# Altium integrated library TI Data Converters Digital to Analog Converter.IntLib: 1533 symbols (part 85 of 99)
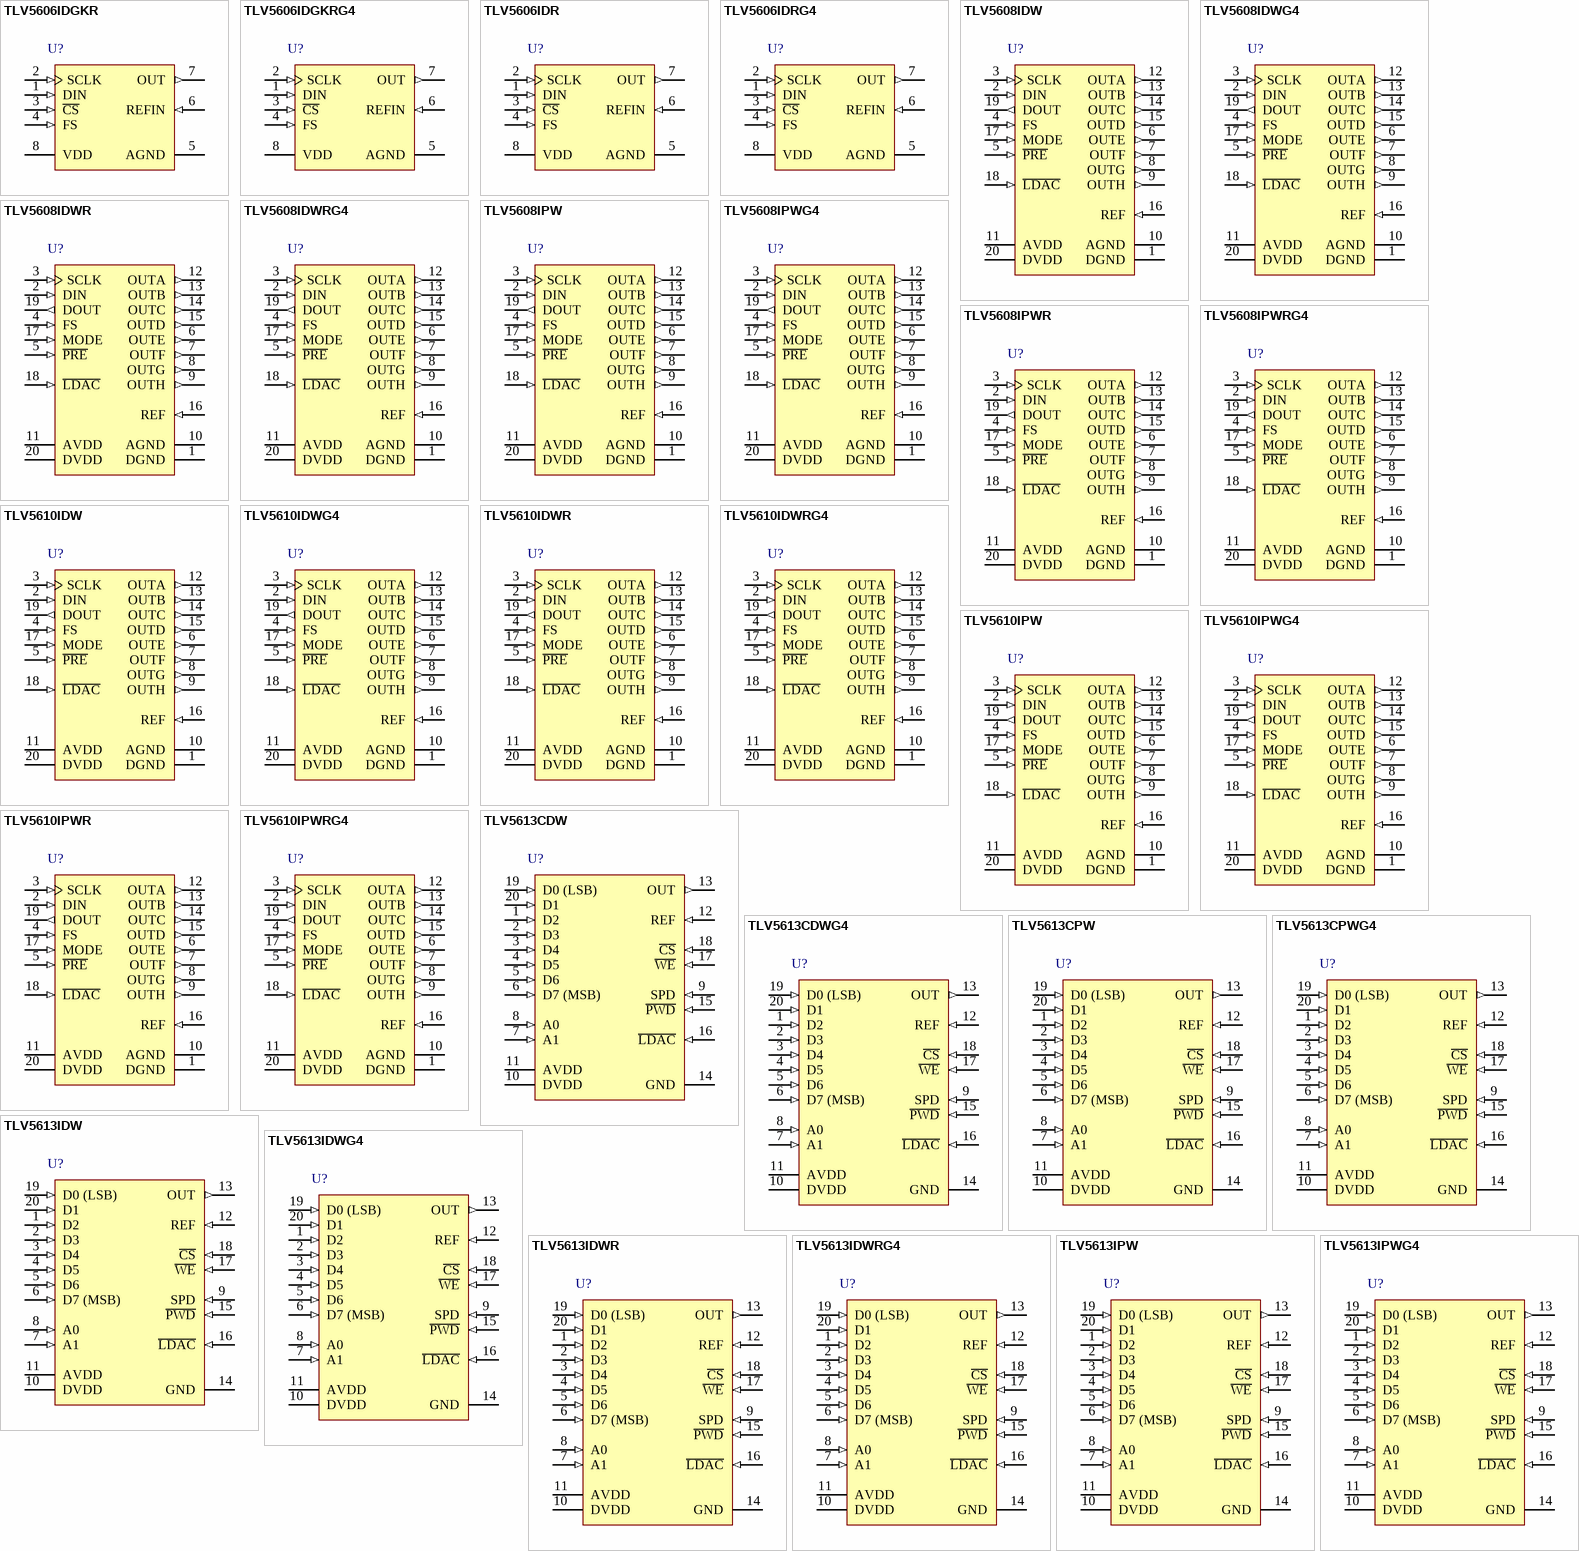
[diagram p157: symbols TLV5606IDGKR to TLV5613IPWG4]

## TLV5608IPWR
designator U?
2.7 to 5.5 V 10-Bit 8-Channel Serial DAC, -40 to 85 degC, 20-pin SOP (PW20), Green (RoHS & no Sb/Br); Manufacturer: Texas Instruments; PartNumber: TLV5608IPWR; DAC Channels: 8; DNL(Max)(+/-LSB): 1; INL(Max)(+/-LSB): 2; Interface: Serial SPI; Power Consumption(Typ)(mW): 18; Resolution(Bits): 10; SubFamily: Precision DAC (=<10MSPS); DatasheetVersion: SLAS268G; PackageVersion: 4040064-5/G, 02/2011; PackageReference: PW20; PackageDescription: 20-Pin Plastic Small Outline, Body 6.5 x 4.4 mm, Pitch 0.65 mm; Supplier 1: Digi-Key; Supplier Part Number 1: TLV5608IPWR-ND; Supplier 2: Newark; Supplier Part Number 2: 76C8892; Supplier 3: Mouser; Supplier Part Number 3: 595-TLV5608IPWR; Eco-Plan: Green (RoHS & no Sb/Br); Settling Time(us): 1; Mounting Technology: Surface Mount; Code_JEDEC: MO-153; ComponentLink1Description: Manufacturer URL; ComponentLink1URL: http://www.ti.com/; ComponentLink2Description: Datasheet; ComponentLink2URL: http://www.ti.com/general/docs/lit/getliterature.tsp?genericPartNumber=TLV5608&fileType=pdf; ComponentLink3Description: Package Specification; ComponentLink3URL: http://www.ti.com.cn/cn/lit/ml/mpds362/mpds362.pdf
footprint TI-PW20_N (SOP, 20-Leads, Body 6.5x4.4mm, Pitch 0.65mm, IPC Medium Density)
footprint TI-PW20_L (SOP, 20-Leads, Body 6.5x4.4mm, Pitch 0.65mm, IPC High Density)
footprint TI-PW20_M (SOP, 20-Leads, Body 6.5x4.4mm, Pitch 0.65mm, IPC Low Density)
pins: 1 DGND (power) "Digital ground", 2 DIN (in) "Digital serial data input", 3 SCLK (in) "Serial clock input", 4 FS (in) "Frame sync input", 5 ~{PRE} (in) "Preset input", 6 OUTE (out) "DAC output E", 7 OUTF (out) "DAC output F", 8 OUTG (out) "DAC output G", 9 OUTH (out) "DAC output H", 10 AGND (power) "Analog ground", 11 AVDD (power) "Analog power supply", 12 OUTA (out) "DAC output A", 13 OUTB (out) "DAC output B", 14 OUTC (out) "DAC output C", 15 OUTD (out) "DAC output D", 16 REF (in) "Voltage reference input", 17 MODE (in) "DSP/uC mode pin. High = uC mode, NC = DSP mode.", 18 ~{LDAC} (in) "Load DAC. The DAC outputs are only updated, if this signal is low. It is an LDAC asynchronous input.", 19 DOUT (out) "Digital serial data output", 20 DVDD (power) "Digital power supply"

## TLV5608IPWRG4
designator U?
2.7 to 5.5 V 10-Bit 8-Channel Serial DAC, -40 to 85 degC, 20-pin SOP (PW20), Green (RoHS & no Sb/Br); Manufacturer: Texas Instruments; PartNumber: TLV5608IPWRG4; DAC Channels: 8; DNL(Max)(+/-LSB): 1; INL(Max)(+/-LSB): 2; Interface: Serial SPI; Power Consumption(Typ)(mW): 18; Resolution(Bits): 10; SubFamily: Precision DAC (=<10MSPS); DatasheetVersion: SLAS268G; PackageVersion: 4040064-5/G, 02/2011; PackageReference: PW20; PackageDescription: 20-Pin Plastic Small Outline, Body 6.5 x 4.4 mm, Pitch 0.65 mm; Supplier 1: Digi-Key; Supplier Part Number 1: TLV5608IPWRG4-ND; Supplier 2: Mouser; Supplier Part Number 2: 595-TLV5608IPWRG4; Eco-Plan: Green (RoHS & no Sb/Br); Settling Time(us): 1; Mounting Technology: Surface Mount; Code_JEDEC: MO-153; ComponentLink1Description: Manufacturer URL; ComponentLink1URL: http://www.ti.com/; ComponentLink2Description: Datasheet; ComponentLink2URL: http://www.ti.com/general/docs/lit/getliterature.tsp?genericPartNumber=TLV5608&fileType=pdf; ComponentLink3Description: Package Specification; ComponentLink3URL: http://www.ti.com.cn/cn/lit/ml/mpds362/mpds362.pdf
footprint TI-PW20_N (SOP, 20-Leads, Body 6.5x4.4mm, Pitch 0.65mm, IPC Medium Density)
footprint TI-PW20_L (SOP, 20-Leads, Body 6.5x4.4mm, Pitch 0.65mm, IPC High Density)
footprint TI-PW20_M (SOP, 20-Leads, Body 6.5x4.4mm, Pitch 0.65mm, IPC Low Density)
pins: 1 DGND (power) "Digital ground", 2 DIN (in) "Digital serial data input", 3 SCLK (in) "Serial clock input", 4 FS (in) "Frame sync input", 5 ~{PRE} (in) "Preset input", 6 OUTE (out) "DAC output E", 7 OUTF (out) "DAC output F", 8 OUTG (out) "DAC output G", 9 OUTH (out) "DAC output H", 10 AGND (power) "Analog ground", 11 AVDD (power) "Analog power supply", 12 OUTA (out) "DAC output A", 13 OUTB (out) "DAC output B", 14 OUTC (out) "DAC output C", 15 OUTD (out) "DAC output D", 16 REF (in) "Voltage reference input", 17 MODE (in) "DSP/uC mode pin. High = uC mode, NC = DSP mode.", 18 ~{LDAC} (in) "Load DAC. The DAC outputs are only updated, if this signal is low. It is an LDAC asynchronous input.", 19 DOUT (out) "Digital serial data output", 20 DVDD (power) "Digital power supply"

## TLV5610IDW
designator U?
2.7 to 5.5 V 12-Bit 8-Channel Serial DAC, -40 to 85 degC, 20-pin SOIC (DW20), Green (RoHS & no Sb/Br); Manufacturer: Texas Instruments; PartNumber: TLV5610IDW; DAC Channels: 8; DNL(Max)(+/-LSB): 1; INL(Max)(+/-LSB): 6; Interface: Serial SPI; Power Consumption(Typ)(mW): 18; Resolution(Bits): 12; SubFamily: Precision DAC (=<10MSPS); DatasheetVersion: SLAS268G; PackageVersion: 4040000-4/G, 01/2011; PackageReference: DW20; PackageDescription: 20-Pin Plastic Small Outline, Body 12.8 x 7.5 mm, Pitch 1.27 mm; Supplier 1: Digi-Key; Supplier Part Number 1: 296-3038-5-ND; Supplier 2: Farnell; Supplier Part Number 2: 8455600; Supplier 3: Newark; Supplier Part Number 3: 38K8476; Supplier 4: Newark; Supplier Part Number 4: 27C4855; Supplier 5: Mouser; Supplier Part Number 5: 595-TLV5610IDW; Eco-Plan: Green (RoHS & no Sb/Br); Settling Time(us): 1; Mounting Technology: Surface Mount; Code_JEDEC: MO-013; ComponentLink1Description: Manufacturer URL; ComponentLink1URL: http://www.ti.com/; ComponentLink2Description: Datasheet; ComponentLink2URL: http://www.ti.com/general/docs/lit/getliterature.tsp?genericPartNumber=TLV5610&fileType=pdf; ComponentLink3Description: Package Specification; ComponentLink3URL: http://www.ti.com/lit/ml/mpds173a/mpds173a.pdf
footprint TI-DW20_N (SOIC, 20-Leads, Body 12.8x7.5mm, Pitch 1.27mm, IPC Medium Density)
footprint TI-DW20_L (SOIC, 20-Leads, Body 12.8x7.5mm, Pitch 1.27mm, IPC High Density)
footprint TI-DW20_M (SOIC, 20-Leads, Body 12.8x7.5mm, Pitch 1.27mm, IPC Low Density)
pins: 1 DGND (power) "Digital ground", 2 DIN (in) "Digital serial data input", 3 SCLK (in) "Serial clock input", 4 FS (in) "Frame sync input", 5 ~{PRE} (in) "Preset input", 6 OUTE (out) "DAC output E", 7 OUTF (out) "DAC output F", 8 OUTG (out) "DAC output G", 9 OUTH (out) "DAC output H", 10 AGND (power) "Analog ground", 11 AVDD (power) "Analog power supply", 12 OUTA (out) "DAC output A", 13 OUTB (out) "DAC output B", 14 OUTC (out) "DAC output C", 15 OUTD (out) "DAC output D", 16 REF (in) "Voltage reference input", 17 MODE (in) "DSP/uC mode pin. High = uC mode, NC = DSP mode.", 18 ~{LDAC} (in) "Load DAC. The DAC outputs are only updated, if this signal is low. It is an LDAC asynchronous input.", 19 DOUT (out) "Digital serial data output", 20 DVDD (power) "Digital power supply"

## TLV5610IDWG4
designator U?
2.7 to 5.5 V 12-Bit 8-Channel Serial DAC, -40 to 85 degC, 20-pin SOIC (DW20), Green (RoHS & no Sb/Br); Manufacturer: Texas Instruments; PartNumber: TLV5610IDWG4; DAC Channels: 8; DNL(Max)(+/-LSB): 1; INL(Max)(+/-LSB): 6; Interface: Serial SPI; Power Consumption(Typ)(mW): 18; Resolution(Bits): 12; SubFamily: Precision DAC (=<10MSPS); DatasheetVersion: SLAS268G; PackageVersion: 4040000-4/G, 01/2011; PackageReference: DW20; PackageDescription: 20-Pin Plastic Small Outline, Body 12.8 x 7.5 mm, Pitch 1.27 mm; Supplier 1: Digi-Key; Supplier Part Number 1: TLV5610IDWG4-ND; Supplier 2: Mouser; Supplier Part Number 2: 595-TLV5610IDWG4; Eco-Plan: Green (RoHS & no Sb/Br); Settling Time(us): 1; Mounting Technology: Surface Mount; Code_JEDEC: MO-013; ComponentLink1Description: Manufacturer URL; ComponentLink1URL: http://www.ti.com/; ComponentLink2Description: Datasheet; ComponentLink2URL: http://www.ti.com/general/docs/lit/getliterature.tsp?genericPartNumber=TLV5610&fileType=pdf; ComponentLink3Description: Package Specification; ComponentLink3URL: http://www.ti.com/lit/ml/mpds173a/mpds173a.pdf
footprint TI-DW20_N (SOIC, 20-Leads, Body 12.8x7.5mm, Pitch 1.27mm, IPC Medium Density)
footprint TI-DW20_L (SOIC, 20-Leads, Body 12.8x7.5mm, Pitch 1.27mm, IPC High Density)
footprint TI-DW20_M (SOIC, 20-Leads, Body 12.8x7.5mm, Pitch 1.27mm, IPC Low Density)
pins: 1 DGND (power) "Digital ground", 2 DIN (in) "Digital serial data input", 3 SCLK (in) "Serial clock input", 4 FS (in) "Frame sync input", 5 ~{PRE} (in) "Preset input", 6 OUTE (out) "DAC output E", 7 OUTF (out) "DAC output F", 8 OUTG (out) "DAC output G", 9 OUTH (out) "DAC output H", 10 AGND (power) "Analog ground", 11 AVDD (power) "Analog power supply", 12 OUTA (out) "DAC output A", 13 OUTB (out) "DAC output B", 14 OUTC (out) "DAC output C", 15 OUTD (out) "DAC output D", 16 REF (in) "Voltage reference input", 17 MODE (in) "DSP/uC mode pin. High = uC mode, NC = DSP mode.", 18 ~{LDAC} (in) "Load DAC. The DAC outputs are only updated, if this signal is low. It is an LDAC asynchronous input.", 19 DOUT (out) "Digital serial data output", 20 DVDD (power) "Digital power supply"

## TLV5610IDWR
designator U?
2.7 to 5.5 V 12-Bit 8-Channel Serial DAC, -40 to 85 degC, 20-pin SOIC (DW20), Green (RoHS & no Sb/Br); Manufacturer: Texas Instruments; PartNumber: TLV5610IDWR; DAC Channels: 8; DNL(Max)(+/-LSB): 1; INL(Max)(+/-LSB): 6; Interface: Serial SPI; Power Consumption(Typ)(mW): 18; Resolution(Bits): 12; SubFamily: Precision DAC (=<10MSPS); DatasheetVersion: SLAS268G; PackageVersion: 4040000-4/G, 01/2011; PackageReference: DW20; PackageDescription: 20-Pin Plastic Small Outline, Body 12.8 x 7.5 mm, Pitch 1.27 mm; Supplier 1: Digi-Key; Supplier Part Number 1: TLV5610IDWR-ND; Supplier 2: Mouser; Supplier Part Number 2: 595-TLV5610IDWR; Eco-Plan: Green (RoHS & no Sb/Br); Settling Time(us): 1; Mounting Technology: Surface Mount; Code_JEDEC: MO-013; ComponentLink1Description: Manufacturer URL; ComponentLink1URL: http://www.ti.com/; ComponentLink2Description: Datasheet; ComponentLink2URL: http://www.ti.com/general/docs/lit/getliterature.tsp?genericPartNumber=TLV5610&fileType=pdf; ComponentLink3Description: Package Specification; ComponentLink3URL: http://www.ti.com/lit/ml/mpds173a/mpds173a.pdf
footprint TI-DW20_N (SOIC, 20-Leads, Body 12.8x7.5mm, Pitch 1.27mm, IPC Medium Density)
footprint TI-DW20_L (SOIC, 20-Leads, Body 12.8x7.5mm, Pitch 1.27mm, IPC High Density)
footprint TI-DW20_M (SOIC, 20-Leads, Body 12.8x7.5mm, Pitch 1.27mm, IPC Low Density)
pins: 1 DGND (power) "Digital ground", 2 DIN (in) "Digital serial data input", 3 SCLK (in) "Serial clock input", 4 FS (in) "Frame sync input", 5 ~{PRE} (in) "Preset input", 6 OUTE (out) "DAC output E", 7 OUTF (out) "DAC output F", 8 OUTG (out) "DAC output G", 9 OUTH (out) "DAC output H", 10 AGND (power) "Analog ground", 11 AVDD (power) "Analog power supply", 12 OUTA (out) "DAC output A", 13 OUTB (out) "DAC output B", 14 OUTC (out) "DAC output C", 15 OUTD (out) "DAC output D", 16 REF (in) "Voltage reference input", 17 MODE (in) "DSP/uC mode pin. High = uC mode, NC = DSP mode.", 18 ~{LDAC} (in) "Load DAC. The DAC outputs are only updated, if this signal is low. It is an LDAC asynchronous input.", 19 DOUT (out) "Digital serial data output", 20 DVDD (power) "Digital power supply"

## TLV5610IDWRG4
designator U?
2.7 to 5.5 V 12-Bit 8-Channel Serial DAC, -40 to 85 degC, 20-pin SOIC (DW20), Green (RoHS & no Sb/Br); Manufacturer: Texas Instruments; PartNumber: TLV5610IDWRG4; DAC Channels: 8; DNL(Max)(+/-LSB): 1; INL(Max)(+/-LSB): 6; Interface: Serial SPI; Power Consumption(Typ)(mW): 18; Resolution(Bits): 12; SubFamily: Precision DAC (=<10MSPS); DatasheetVersion: SLAS268G; PackageVersion: 4040000-4/G, 01/2011; PackageReference: DW20; PackageDescription: 20-Pin Plastic Small Outline, Body 12.8 x 7.5 mm, Pitch 1.27 mm; Supplier 1: Digi-Key; Supplier Part Number 1: TLV5610IDWRG4-ND; Supplier 2: Mouser; Supplier Part Number 2: 595-TLV5610IDWRG4; Eco-Plan: Green (RoHS & no Sb/Br); Settling Time(us): 1; Mounting Technology: Surface Mount; Code_JEDEC: MO-013; ComponentLink1Description: Manufacturer URL; ComponentLink1URL: http://www.ti.com/; ComponentLink2Description: Datasheet; ComponentLink2URL: http://www.ti.com/general/docs/lit/getliterature.tsp?genericPartNumber=TLV5610&fileType=pdf; ComponentLink3Description: Package Specification; ComponentLink3URL: http://www.ti.com/lit/ml/mpds173a/mpds173a.pdf
footprint TI-DW20_N (SOIC, 20-Leads, Body 12.8x7.5mm, Pitch 1.27mm, IPC Medium Density)
footprint TI-DW20_L (SOIC, 20-Leads, Body 12.8x7.5mm, Pitch 1.27mm, IPC High Density)
footprint TI-DW20_M (SOIC, 20-Leads, Body 12.8x7.5mm, Pitch 1.27mm, IPC Low Density)
pins: 1 DGND (power) "Digital ground", 2 DIN (in) "Digital serial data input", 3 SCLK (in) "Serial clock input", 4 FS (in) "Frame sync input", 5 ~{PRE} (in) "Preset input", 6 OUTE (out) "DAC output E", 7 OUTF (out) "DAC output F", 8 OUTG (out) "DAC output G", 9 OUTH (out) "DAC output H", 10 AGND (power) "Analog ground", 11 AVDD (power) "Analog power supply", 12 OUTA (out) "DAC output A", 13 OUTB (out) "DAC output B", 14 OUTC (out) "DAC output C", 15 OUTD (out) "DAC output D", 16 REF (in) "Voltage reference input", 17 MODE (in) "DSP/uC mode pin. High = uC mode, NC = DSP mode.", 18 ~{LDAC} (in) "Load DAC. The DAC outputs are only updated, if this signal is low. It is an LDAC asynchronous input.", 19 DOUT (out) "Digital serial data output", 20 DVDD (power) "Digital power supply"

## TLV5610IPW
designator U?
2.7 to 5.5 V 12-Bit 8-Channel Serial DAC, -40 to 85 degC, 20-pin SOP (PW20), Green (RoHS & no Sb/Br); Manufacturer: Texas Instruments; PartNumber: TLV5610IPW; DAC Channels: 8; DNL(Max)(+/-LSB): 1; INL(Max)(+/-LSB): 6; Interface: Serial SPI; Power Consumption(Typ)(mW): 18; Resolution(Bits): 12; SubFamily: Precision DAC (=<10MSPS); DatasheetVersion: SLAS268G; PackageVersion: 4040064-5/G, 02/2011; PackageReference: PW20; PackageDescription: 20-Pin Plastic Small Outline, Body 6.5 x 4.4 mm, Pitch 0.65 mm; Supplier 1: Digi-Key; Supplier Part Number 1: 296-3039-5-ND; Supplier 2: Newark; Supplier Part Number 2: 27C4856; Supplier 3: Mouser; Supplier Part Number 3: 595-TLV5610IPW; Eco-Plan: Green (RoHS & no Sb/Br); Settling Time(us): 1; Mounting Technology: Surface Mount; Code_JEDEC: MO-153; ComponentLink1Description: Manufacturer URL; ComponentLink1URL: http://www.ti.com/; ComponentLink2Description: Datasheet; ComponentLink2URL: http://www.ti.com/general/docs/lit/getliterature.tsp?genericPartNumber=TLV5610&fileType=pdf; ComponentLink3Description: Package Specification; ComponentLink3URL: http://www.ti.com.cn/cn/lit/ml/mpds362/mpds362.pdf
footprint TI-PW20_N (SOP, 20-Leads, Body 6.5x4.4mm, Pitch 0.65mm, IPC Medium Density)
footprint TI-PW20_L (SOP, 20-Leads, Body 6.5x4.4mm, Pitch 0.65mm, IPC High Density)
footprint TI-PW20_M (SOP, 20-Leads, Body 6.5x4.4mm, Pitch 0.65mm, IPC Low Density)
pins: 1 DGND (power) "Digital ground", 2 DIN (in) "Digital serial data input", 3 SCLK (in) "Serial clock input", 4 FS (in) "Frame sync input", 5 ~{PRE} (in) "Preset input", 6 OUTE (out) "DAC output E", 7 OUTF (out) "DAC output F", 8 OUTG (out) "DAC output G", 9 OUTH (out) "DAC output H", 10 AGND (power) "Analog ground", 11 AVDD (power) "Analog power supply", 12 OUTA (out) "DAC output A", 13 OUTB (out) "DAC output B", 14 OUTC (out) "DAC output C", 15 OUTD (out) "DAC output D", 16 REF (in) "Voltage reference input", 17 MODE (in) "DSP/uC mode pin. High = uC mode, NC = DSP mode.", 18 ~{LDAC} (in) "Load DAC. The DAC outputs are only updated, if this signal is low. It is an LDAC asynchronous input.", 19 DOUT (out) "Digital serial data output", 20 DVDD (power) "Digital power supply"

## TLV5610IPWG4
designator U?
2.7 to 5.5 V 12-Bit 8-Channel Serial DAC, -40 to 85 degC, 20-pin SOP (PW20), Green (RoHS & no Sb/Br); Manufacturer: Texas Instruments; PartNumber: TLV5610IPWG4; DAC Channels: 8; DNL(Max)(+/-LSB): 1; INL(Max)(+/-LSB): 6; Interface: Serial SPI; Power Consumption(Typ)(mW): 18; Resolution(Bits): 12; SubFamily: Precision DAC (=<10MSPS); DatasheetVersion: SLAS268G; PackageVersion: 4040064-5/G, 02/2011; PackageReference: PW20; PackageDescription: 20-Pin Plastic Small Outline, Body 6.5 x 4.4 mm, Pitch 0.65 mm; Supplier 1: Digi-Key; Supplier Part Number 1: TLV5610IPWG4-ND; Supplier 2: Mouser; Supplier Part Number 2: 595-TLV5610IPWG4; Eco-Plan: Green (RoHS & no Sb/Br); Settling Time(us): 1; Mounting Technology: Surface Mount; Code_JEDEC: MO-153; ComponentLink1Description: Manufacturer URL; ComponentLink1URL: http://www.ti.com/; ComponentLink2Description: Datasheet; ComponentLink2URL: http://www.ti.com/general/docs/lit/getliterature.tsp?genericPartNumber=TLV5610&fileType=pdf; ComponentLink3Description: Package Specification; ComponentLink3URL: http://www.ti.com.cn/cn/lit/ml/mpds362/mpds362.pdf
footprint TI-PW20_N (SOP, 20-Leads, Body 6.5x4.4mm, Pitch 0.65mm, IPC Medium Density)
footprint TI-PW20_L (SOP, 20-Leads, Body 6.5x4.4mm, Pitch 0.65mm, IPC High Density)
footprint TI-PW20_M (SOP, 20-Leads, Body 6.5x4.4mm, Pitch 0.65mm, IPC Low Density)
pins: 1 DGND (power) "Digital ground", 2 DIN (in) "Digital serial data input", 3 SCLK (in) "Serial clock input", 4 FS (in) "Frame sync input", 5 ~{PRE} (in) "Preset input", 6 OUTE (out) "DAC output E", 7 OUTF (out) "DAC output F", 8 OUTG (out) "DAC output G", 9 OUTH (out) "DAC output H", 10 AGND (power) "Analog ground", 11 AVDD (power) "Analog power supply", 12 OUTA (out) "DAC output A", 13 OUTB (out) "DAC output B", 14 OUTC (out) "DAC output C", 15 OUTD (out) "DAC output D", 16 REF (in) "Voltage reference input", 17 MODE (in) "DSP/uC mode pin. High = uC mode, NC = DSP mode.", 18 ~{LDAC} (in) "Load DAC. The DAC outputs are only updated, if this signal is low. It is an LDAC asynchronous input.", 19 DOUT (out) "Digital serial data output", 20 DVDD (power) "Digital power supply"

## TLV5610IPWR
designator U?
2.7 to 5.5 V 12-Bit 8-Channel Serial DAC, -40 to 85 degC, 20-pin SOP (PW20), Green (RoHS & no Sb/Br); Manufacturer: Texas Instruments; PartNumber: TLV5610IPWR; DAC Channels: 8; DNL(Max)(+/-LSB): 1; INL(Max)(+/-LSB): 6; Interface: Serial SPI; Power Consumption(Typ)(mW): 18; Resolution(Bits): 12; SubFamily: Precision DAC (=<10MSPS); DatasheetVersion: SLAS268G; PackageVersion: 4040064-5/G, 02/2011; PackageReference: PW20; PackageDescription: 20-Pin Plastic Small Outline, Body 6.5 x 4.4 mm, Pitch 0.65 mm; Supplier 1: Digi-Key; Supplier Part Number 1: TLV5610IPWR-ND; Supplier 2: Mouser; Supplier Part Number 2: 595-TLV5610IPWR; Eco-Plan: Green (RoHS & no Sb/Br); Settling Time(us): 1; Mounting Technology: Surface Mount; Code_JEDEC: MO-153; ComponentLink1Description: Manufacturer URL; ComponentLink1URL: http://www.ti.com/; ComponentLink2Description: Datasheet; ComponentLink2URL: http://www.ti.com/general/docs/lit/getliterature.tsp?genericPartNumber=TLV5610&fileType=pdf; ComponentLink3Description: Package Specification; ComponentLink3URL: http://www.ti.com.cn/cn/lit/ml/mpds362/mpds362.pdf
footprint TI-PW20_N (SOP, 20-Leads, Body 6.5x4.4mm, Pitch 0.65mm, IPC Medium Density)
footprint TI-PW20_L (SOP, 20-Leads, Body 6.5x4.4mm, Pitch 0.65mm, IPC High Density)
footprint TI-PW20_M (SOP, 20-Leads, Body 6.5x4.4mm, Pitch 0.65mm, IPC Low Density)
pins: 1 DGND (power) "Digital ground", 2 DIN (in) "Digital serial data input", 3 SCLK (in) "Serial clock input", 4 FS (in) "Frame sync input", 5 ~{PRE} (in) "Preset input", 6 OUTE (out) "DAC output E", 7 OUTF (out) "DAC output F", 8 OUTG (out) "DAC output G", 9 OUTH (out) "DAC output H", 10 AGND (power) "Analog ground", 11 AVDD (power) "Analog power supply", 12 OUTA (out) "DAC output A", 13 OUTB (out) "DAC output B", 14 OUTC (out) "DAC output C", 15 OUTD (out) "DAC output D", 16 REF (in) "Voltage reference input", 17 MODE (in) "DSP/uC mode pin. High = uC mode, NC = DSP mode.", 18 ~{LDAC} (in) "Load DAC. The DAC outputs are only updated, if this signal is low. It is an LDAC asynchronous input.", 19 DOUT (out) "Digital serial data output", 20 DVDD (power) "Digital power supply"

## TLV5610IPWRG4
designator U?
2.7 to 5.5 V 12-Bit 8-Channel Serial DAC, -40 to 85 degC, 20-pin SOP (PW20), Green (RoHS & no Sb/Br); Manufacturer: Texas Instruments; PartNumber: TLV5610IPWRG4; DAC Channels: 8; DNL(Max)(+/-LSB): 1; INL(Max)(+/-LSB): 6; Interface: Serial SPI; Power Consumption(Typ)(mW): 18; Resolution(Bits): 12; SubFamily: Precision DAC (=<10MSPS); DatasheetVersion: SLAS268G; PackageVersion: 4040064-5/G, 02/2011; PackageReference: PW20; PackageDescription: 20-Pin Plastic Small Outline, Body 6.5 x 4.4 mm, Pitch 0.65 mm; Supplier 1: Digi-Key; Supplier Part Number 1: TLV5610IPWRG4-ND; Supplier 2: Mouser; Supplier Part Number 2: 595-TLV5610IPWRG4; Eco-Plan: Green (RoHS & no Sb/Br); Settling Time(us): 1; Mounting Technology: Surface Mount; Code_JEDEC: MO-153; ComponentLink1Description: Manufacturer URL; ComponentLink1URL: http://www.ti.com/; ComponentLink2Description: Datasheet; ComponentLink2URL: http://www.ti.com/general/docs/lit/getliterature.tsp?genericPartNumber=TLV5610&fileType=pdf; ComponentLink3Description: Package Specification; ComponentLink3URL: http://www.ti.com.cn/cn/lit/ml/mpds362/mpds362.pdf
footprint TI-PW20_N (SOP, 20-Leads, Body 6.5x4.4mm, Pitch 0.65mm, IPC Medium Density)
footprint TI-PW20_L (SOP, 20-Leads, Body 6.5x4.4mm, Pitch 0.65mm, IPC High Density)
footprint TI-PW20_M (SOP, 20-Leads, Body 6.5x4.4mm, Pitch 0.65mm, IPC Low Density)
pins: 1 DGND (power) "Digital ground", 2 DIN (in) "Digital serial data input", 3 SCLK (in) "Serial clock input", 4 FS (in) "Frame sync input", 5 ~{PRE} (in) "Preset input", 6 OUTE (out) "DAC output E", 7 OUTF (out) "DAC output F", 8 OUTG (out) "DAC output G", 9 OUTH (out) "DAC output H", 10 AGND (power) "Analog ground", 11 AVDD (power) "Analog power supply", 12 OUTA (out) "DAC output A", 13 OUTB (out) "DAC output B", 14 OUTC (out) "DAC output C", 15 OUTD (out) "DAC output D", 16 REF (in) "Voltage reference input", 17 MODE (in) "DSP/uC mode pin. High = uC mode, NC = DSP mode.", 18 ~{LDAC} (in) "Load DAC. The DAC outputs are only updated, if this signal is low. It is an LDAC asynchronous input.", 19 DOUT (out) "Digital serial data output", 20 DVDD (power) "Digital power supply"

## TLV5613CDW
designator U?
12-Bit, DAC, Parallel, Voltage Out, Programmable Settling Time / Power Consumption, Power Down, 0 to 70 degC, 20-pin SOIC (DW20), Green (RoHS & no Sb/Br); Manufacturer: Texas Instruments; PartNumber: TLV5613CDW; DAC Channels: 1; INL(Max)(+/-LSB): 4; Power Consumption(Typ)(mW): 4.2; Resolution(Bits): 12; SFDR(dB): 72; SNR(dB): 78; SubFamily: Precision DAC (=<10MSPS); DatasheetVersion: SLAS174B; PackageVersion: 4040000-4/G, 01/2011; PackageReference: DW20; PackageDescription: 20-Pin Plastic Small Outline, Body 12.8 x 7.5 mm, Pitch 1.27 mm; Supplier 1: Digi-Key; Supplier Part Number 1: 296-2299-5-ND; Supplier 2: Mouser; Supplier Part Number 2: 595-TLV5613CDW; DNL(Max)(+/-LSB): 1; Eco-Plan: Green (RoHS & no Sb/Br); Interface: Parallel; Settling Time(us): 1; Mounting Technology: Surface Mount; Code_JEDEC: MO-013; ComponentLink1Description: Manufacturer URL; ComponentLink1URL: http://www.ti.com/; ComponentLink2Description: Datasheet; ComponentLink2URL: http://www.ti.com/general/docs/lit/getliterature.tsp?genericPartNumber=TLV5613&fileType=pdf; ComponentLink3Description: Package Specification; ComponentLink3URL: http://www.ti.com/lit/ml/mpds173a/mpds173a.pdf
footprint TI-DW20_N (SOIC, 20-Leads, Body 12.8x7.5mm, Pitch 1.27mm, IPC Medium Density)
footprint TI-DW20_L (SOIC, 20-Leads, Body 12.8x7.5mm, Pitch 1.27mm, IPC High Density)
footprint TI-DW20_M (SOIC, 20-Leads, Body 12.8x7.5mm, Pitch 1.27mm, IPC Low Density)
pins: 1 D2 (in) "Data input", 2 D3 (in) "Data input", 3 D4 (in) "Data input", 4 D5 (in) "Data input", 5 D6 (in) "Data input", 6 D7 (MSB) (in) "Data input", 7 A1 (in) "Address input", 8 A0 (in) "Address input", 9 SPD (in) "Speed select. Digital input", 10 DVDD (power) "Digital positive power supply", 11 AVDD (power) "Analog positive power supply", 12 REF (in) "Analog reference voltage input", 13 OUT (out) "DAC analog voltage output", 14 GND (power) "Ground", 15 ~{PWD} (in) "Power down. Digital input active low", 16 ~{LDAC} (in) "Load DAC. Digital input active low, used to load DAC output", 17 ~{WE} (in) "Write enable. Digital input active low, used to latch data", 18 ~{CS} (in) "Chip select. Digital input active low, used to enable/disable inputs", 19 D0 (LSB) (in) "Data input", 20 D1 (in) "Data input"

## TLV5613CDWG4
designator U?
12-Bit, DAC, Parallel, Voltage Out, Programmable Settling Time / Power Consumption, Power Down, 0 to 70 degC, 20-pin SOIC (DW20), Green (RoHS & no Sb/Br); Manufacturer: Texas Instruments; PartNumber: TLV5613CDWG4; DAC Channels: 1; INL(Max)(+/-LSB): 4; Power Consumption(Typ)(mW): 4.2; Resolution(Bits): 12; SFDR(dB): 72; SNR(dB): 78; SubFamily: Precision DAC (=<10MSPS); DatasheetVersion: SLAS174B; PackageVersion: 4040000-4/G, 01/2011; PackageReference: DW20; PackageDescription: 20-Pin Plastic Small Outline, Body 12.8 x 7.5 mm, Pitch 1.27 mm; Supplier 1: Digi-Key; Supplier Part Number 1: TLV5613CDWG4-ND; Supplier 2: Mouser; Supplier Part Number 2: 595-TLV5613CDWG4; DNL(Max)(+/-LSB): 1; Eco-Plan: Green (RoHS & no Sb/Br); Interface: Parallel; Settling Time(us): 1; Mounting Technology: Surface Mount; Code_JEDEC: MO-013; ComponentLink1Description: Manufacturer URL; ComponentLink1URL: http://www.ti.com/; ComponentLink2Description: Datasheet; ComponentLink2URL: http://www.ti.com/general/docs/lit/getliterature.tsp?genericPartNumber=TLV5613&fileType=pdf; ComponentLink3Description: Package Specification; ComponentLink3URL: http://www.ti.com/lit/ml/mpds173a/mpds173a.pdf
footprint TI-DW20_N (SOIC, 20-Leads, Body 12.8x7.5mm, Pitch 1.27mm, IPC Medium Density)
footprint TI-DW20_L (SOIC, 20-Leads, Body 12.8x7.5mm, Pitch 1.27mm, IPC High Density)
footprint TI-DW20_M (SOIC, 20-Leads, Body 12.8x7.5mm, Pitch 1.27mm, IPC Low Density)
pins: 1 D2 (in) "Data input", 2 D3 (in) "Data input", 3 D4 (in) "Data input", 4 D5 (in) "Data input", 5 D6 (in) "Data input", 6 D7 (MSB) (in) "Data input", 7 A1 (in) "Address input", 8 A0 (in) "Address input", 9 SPD (in) "Speed select. Digital input", 10 DVDD (power) "Digital positive power supply", 11 AVDD (power) "Analog positive power supply", 12 REF (in) "Analog reference voltage input", 13 OUT (out) "DAC analog voltage output", 14 GND (power) "Ground", 15 ~{PWD} (in) "Power down. Digital input active low", 16 ~{LDAC} (in) "Load DAC. Digital input active low, used to load DAC output", 17 ~{WE} (in) "Write enable. Digital input active low, used to latch data", 18 ~{CS} (in) "Chip select. Digital input active low, used to enable/disable inputs", 19 D0 (LSB) (in) "Data input", 20 D1 (in) "Data input"

## TLV5613CPW
designator U?
12-Bit, DAC, Parallel, Voltage Out, Programmable Settling Time / Power Consumption, Power Down, 0 to 70 degC, 20-pin SOP (PW20), Green (RoHS & no Sb/Br); Manufacturer: Texas Instruments; PartNumber: TLV5613CPW; DAC Channels: 1; INL(Max)(+/-LSB): 4; Power Consumption(Typ)(mW): 4.2; Resolution(Bits): 12; SFDR(dB): 72; SNR(dB): 78; SubFamily: Precision DAC (=<10MSPS); DatasheetVersion: SLAS174B; PackageVersion: 4040064-5/G, 02/2011; PackageReference: PW20; PackageDescription: 20-Pin Plastic Small Outline, Body 6.5 x 4.4 mm, Pitch 0.65 mm; Supplier 1: Digi-Key; Supplier Part Number 1: 296-1918-5-ND; Supplier 2: Newark; Supplier Part Number 2: 93B3399; Supplier 3: Mouser; Supplier Part Number 3: 595-TLV5613CPW; DNL(Max)(+/-LSB): 1; Eco-Plan: Green (RoHS & no Sb/Br); Interface: Parallel; Settling Time(us): 1; Mounting Technology: Surface Mount; Code_JEDEC: MO-153; ComponentLink1Description: Manufacturer URL; ComponentLink1URL: http://www.ti.com/; ComponentLink2Description: Datasheet; ComponentLink2URL: http://www.ti.com/general/docs/lit/getliterature.tsp?genericPartNumber=TLV5613&fileType=pdf; ComponentLink3Description: Package Specification; ComponentLink3URL: http://www.ti.com.cn/cn/lit/ml/mpds362/mpds362.pdf
footprint TI-PW20_N (SOP, 20-Leads, Body 6.5x4.4mm, Pitch 0.65mm, IPC Medium Density)
footprint TI-PW20_L (SOP, 20-Leads, Body 6.5x4.4mm, Pitch 0.65mm, IPC High Density)
footprint TI-PW20_M (SOP, 20-Leads, Body 6.5x4.4mm, Pitch 0.65mm, IPC Low Density)
pins: 1 D2 (in) "Data input", 2 D3 (in) "Data input", 3 D4 (in) "Data input", 4 D5 (in) "Data input", 5 D6 (in) "Data input", 6 D7 (MSB) (in) "Data input", 7 A1 (in) "Address input", 8 A0 (in) "Address input", 9 SPD (in) "Speed select. Digital input", 10 DVDD (power) "Digital positive power supply", 11 AVDD (power) "Analog positive power supply", 12 REF (in) "Analog reference voltage input", 13 OUT (out) "DAC analog voltage output", 14 GND (power) "Ground", 15 ~{PWD} (in) "Power down. Digital input active low", 16 ~{LDAC} (in) "Load DAC. Digital input active low, used to load DAC output", 17 ~{WE} (in) "Write enable. Digital input active low, used to latch data", 18 ~{CS} (in) "Chip select. Digital input active low, used to enable/disable inputs", 19 D0 (LSB) (in) "Data input", 20 D1 (in) "Data input"

## TLV5613CPWG4
designator U?
12-Bit, DAC, Parallel, Voltage Out, Programmable Settling Time / Power Consumption, Power Down, 0 to 70 degC, 20-pin SOP (PW20), Green (RoHS & no Sb/Br); Manufacturer: Texas Instruments; PartNumber: TLV5613CPWG4; DAC Channels: 1; INL(Max)(+/-LSB): 4; Power Consumption(Typ)(mW): 4.2; Resolution(Bits): 12; SFDR(dB): 72; SNR(dB): 78; SubFamily: Precision DAC (=<10MSPS); DatasheetVersion: SLAS174B; PackageVersion: 4040064-5/G, 02/2011; PackageReference: PW20; PackageDescription: 20-Pin Plastic Small Outline, Body 6.5 x 4.4 mm, Pitch 0.65 mm; Supplier 1: Digi-Key; Supplier Part Number 1: TLV5613CPWG4-ND; Supplier 2: Mouser; Supplier Part Number 2: 595-TLV5613CPWG4; DNL(Max)(+/-LSB): 1; Eco-Plan: Green (RoHS & no Sb/Br); Interface: Parallel; Settling Time(us): 1; Mounting Technology: Surface Mount; Code_JEDEC: MO-153; ComponentLink1Description: Manufacturer URL; ComponentLink1URL: http://www.ti.com/; ComponentLink2Description: Datasheet; ComponentLink2URL: http://www.ti.com/general/docs/lit/getliterature.tsp?genericPartNumber=TLV5613&fileType=pdf; ComponentLink3Description: Package Specification; ComponentLink3URL: http://www.ti.com.cn/cn/lit/ml/mpds362/mpds362.pdf
footprint TI-PW20_N (SOP, 20-Leads, Body 6.5x4.4mm, Pitch 0.65mm, IPC Medium Density)
footprint TI-PW20_L (SOP, 20-Leads, Body 6.5x4.4mm, Pitch 0.65mm, IPC High Density)
footprint TI-PW20_M (SOP, 20-Leads, Body 6.5x4.4mm, Pitch 0.65mm, IPC Low Density)
pins: 1 D2 (in) "Data input", 2 D3 (in) "Data input", 3 D4 (in) "Data input", 4 D5 (in) "Data input", 5 D6 (in) "Data input", 6 D7 (MSB) (in) "Data input", 7 A1 (in) "Address input", 8 A0 (in) "Address input", 9 SPD (in) "Speed select. Digital input", 10 DVDD (power) "Digital positive power supply", 11 AVDD (power) "Analog positive power supply", 12 REF (in) "Analog reference voltage input", 13 OUT (out) "DAC analog voltage output", 14 GND (power) "Ground", 15 ~{PWD} (in) "Power down. Digital input active low", 16 ~{LDAC} (in) "Load DAC. Digital input active low, used to load DAC output", 17 ~{WE} (in) "Write enable. Digital input active low, used to latch data", 18 ~{CS} (in) "Chip select. Digital input active low, used to enable/disable inputs", 19 D0 (LSB) (in) "Data input", 20 D1 (in) "Data input"

## TLV5613IDW
designator U?
12-Bit, DAC, Parallel, Voltage Out, Programmable Settling Time / Power Consumption, Power Down, -40 to 85 degC, 20-pin SOIC (DW20), Green (RoHS & no Sb/Br); Manufacturer: Texas Instruments; PartNumber: TLV5613IDW; DAC Channels: 1; INL(Max)(+/-LSB): 4; Power Consumption(Typ)(mW): 4.2; Resolution(Bits): 12; SFDR(dB): 72; SNR(dB): 78; SubFamily: Precision DAC (=<10MSPS); DatasheetVersion: SLAS174B; PackageVersion: 4040000-4/G, 01/2011; PackageReference: DW20; PackageDescription: 20-Pin Plastic Small Outline, Body 12.8 x 7.5 mm, Pitch 1.27 mm; Supplier 1: Digi-Key; Supplier Part Number 1: 296-1919-5-ND; Supplier 2: Mouser; Supplier Part Number 2: 595-TLV5613IDW; DNL(Max)(+/-LSB): 1; Eco-Plan: Green (RoHS & no Sb/Br); Interface: Parallel; Settling Time(us): 1; Mounting Technology: Surface Mount; Code_JEDEC: MO-013; ComponentLink1Description: Manufacturer URL; ComponentLink1URL: http://www.ti.com/; ComponentLink2Description: Datasheet; ComponentLink2URL: http://www.ti.com/general/docs/lit/getliterature.tsp?genericPartNumber=TLV5613&fileType=pdf; ComponentLink3Description: Package Specification; ComponentLink3URL: http://www.ti.com/lit/ml/mpds173a/mpds173a.pdf
footprint TI-DW20_N (SOIC, 20-Leads, Body 12.8x7.5mm, Pitch 1.27mm, IPC Medium Density)
footprint TI-DW20_L (SOIC, 20-Leads, Body 12.8x7.5mm, Pitch 1.27mm, IPC High Density)
footprint TI-DW20_M (SOIC, 20-Leads, Body 12.8x7.5mm, Pitch 1.27mm, IPC Low Density)
pins: 1 D2 (in) "Data input", 2 D3 (in) "Data input", 3 D4 (in) "Data input", 4 D5 (in) "Data input", 5 D6 (in) "Data input", 6 D7 (MSB) (in) "Data input", 7 A1 (in) "Address input", 8 A0 (in) "Address input", 9 SPD (in) "Speed select. Digital input", 10 DVDD (power) "Digital positive power supply", 11 AVDD (power) "Analog positive power supply", 12 REF (in) "Analog reference voltage input", 13 OUT (out) "DAC analog voltage output", 14 GND (power) "Ground", 15 ~{PWD} (in) "Power down. Digital input active low", 16 ~{LDAC} (in) "Load DAC. Digital input active low, used to load DAC output", 17 ~{WE} (in) "Write enable. Digital input active low, used to latch data", 18 ~{CS} (in) "Chip select. Digital input active low, used to enable/disable inputs", 19 D0 (LSB) (in) "Data input", 20 D1 (in) "Data input"

## TLV5613IDWG4
designator U?
12-Bit, DAC, Parallel, Voltage Out, Programmable Settling Time / Power Consumption, Power Down, -40 to 85 degC, 20-pin SOIC (DW20), Green (RoHS & no Sb/Br); Manufacturer: Texas Instruments; PartNumber: TLV5613IDWG4; DAC Channels: 1; INL(Max)(+/-LSB): 4; Power Consumption(Typ)(mW): 4.2; Resolution(Bits): 12; SFDR(dB): 72; SNR(dB): 78; SubFamily: Precision DAC (=<10MSPS); DatasheetVersion: SLAS174B; PackageVersion: 4040000-4/G, 01/2011; PackageReference: DW20; PackageDescription: 20-Pin Plastic Small Outline, Body 12.8 x 7.5 mm, Pitch 1.27 mm; Supplier 1: Digi-Key; Supplier Part Number 1: TLV5613IDWG4-ND; Supplier 2: Mouser; Supplier Part Number 2: 595-TLV5613IDWG4; DNL(Max)(+/-LSB): 1; Eco-Plan: Green (RoHS & no Sb/Br); Interface: Parallel; Settling Time(us): 1; Mounting Technology: Surface Mount; Code_JEDEC: MO-013; ComponentLink1Description: Manufacturer URL; ComponentLink1URL: http://www.ti.com/; ComponentLink2Description: Datasheet; ComponentLink2URL: http://www.ti.com/general/docs/lit/getliterature.tsp?genericPartNumber=TLV5613&fileType=pdf; ComponentLink3Description: Package Specification; ComponentLink3URL: http://www.ti.com/lit/ml/mpds173a/mpds173a.pdf
footprint TI-DW20_N (SOIC, 20-Leads, Body 12.8x7.5mm, Pitch 1.27mm, IPC Medium Density)
footprint TI-DW20_L (SOIC, 20-Leads, Body 12.8x7.5mm, Pitch 1.27mm, IPC High Density)
footprint TI-DW20_M (SOIC, 20-Leads, Body 12.8x7.5mm, Pitch 1.27mm, IPC Low Density)
pins: 1 D2 (in) "Data input", 2 D3 (in) "Data input", 3 D4 (in) "Data input", 4 D5 (in) "Data input", 5 D6 (in) "Data input", 6 D7 (MSB) (in) "Data input", 7 A1 (in) "Address input", 8 A0 (in) "Address input", 9 SPD (in) "Speed select. Digital input", 10 DVDD (power) "Digital positive power supply", 11 AVDD (power) "Analog positive power supply", 12 REF (in) "Analog reference voltage input", 13 OUT (out) "DAC analog voltage output", 14 GND (power) "Ground", 15 ~{PWD} (in) "Power down. Digital input active low", 16 ~{LDAC} (in) "Load DAC. Digital input active low, used to load DAC output", 17 ~{WE} (in) "Write enable. Digital input active low, used to latch data", 18 ~{CS} (in) "Chip select. Digital input active low, used to enable/disable inputs", 19 D0 (LSB) (in) "Data input", 20 D1 (in) "Data input"

## TLV5613IDWR
designator U?
12-Bit, DAC, Parallel, Voltage Out, Programmable Settling Time / Power Consumption, Power Down, -40 to 85 degC, 20-pin SOIC (DW20), Green (RoHS & no Sb/Br); Manufacturer: Texas Instruments; PartNumber: TLV5613IDWR; DAC Channels: 1; INL(Max)(+/-LSB): 4; Power Consumption(Typ)(mW): 4.2; Resolution(Bits): 12; SFDR(dB): 72; SNR(dB): 78; SubFamily: Precision DAC (=<10MSPS); DatasheetVersion: SLAS174B; PackageVersion: 4040000-4/G, 01/2011; PackageReference: DW20; PackageDescription: 20-Pin Plastic Small Outline, Body 12.8 x 7.5 mm, Pitch 1.27 mm; Supplier 1: Digi-Key; Supplier Part Number 1: TLV5613IDWR-ND; Supplier 2: Mouser; Supplier Part Number 2: 595-TLV5613IDWR; DNL(Max)(+/-LSB): 1; Eco-Plan: Green (RoHS & no Sb/Br); Interface: Parallel; Settling Time(us): 1; Mounting Technology: Surface Mount; Code_JEDEC: MO-013; ComponentLink1Description: Manufacturer URL; ComponentLink1URL: http://www.ti.com/; ComponentLink2Description: Datasheet; ComponentLink2URL: http://www.ti.com/general/docs/lit/getliterature.tsp?genericPartNumber=TLV5613&fileType=pdf; ComponentLink3Description: Package Specification; ComponentLink3URL: http://www.ti.com/lit/ml/mpds173a/mpds173a.pdf
footprint TI-DW20_N (SOIC, 20-Leads, Body 12.8x7.5mm, Pitch 1.27mm, IPC Medium Density)
footprint TI-DW20_L (SOIC, 20-Leads, Body 12.8x7.5mm, Pitch 1.27mm, IPC High Density)
footprint TI-DW20_M (SOIC, 20-Leads, Body 12.8x7.5mm, Pitch 1.27mm, IPC Low Density)
pins: 1 D2 (in) "Data input", 2 D3 (in) "Data input", 3 D4 (in) "Data input", 4 D5 (in) "Data input", 5 D6 (in) "Data input", 6 D7 (MSB) (in) "Data input", 7 A1 (in) "Address input", 8 A0 (in) "Address input", 9 SPD (in) "Speed select. Digital input", 10 DVDD (power) "Digital positive power supply", 11 AVDD (power) "Analog positive power supply", 12 REF (in) "Analog reference voltage input", 13 OUT (out) "DAC analog voltage output", 14 GND (power) "Ground", 15 ~{PWD} (in) "Power down. Digital input active low", 16 ~{LDAC} (in) "Load DAC. Digital input active low, used to load DAC output", 17 ~{WE} (in) "Write enable. Digital input active low, used to latch data", 18 ~{CS} (in) "Chip select. Digital input active low, used to enable/disable inputs", 19 D0 (LSB) (in) "Data input", 20 D1 (in) "Data input"

## TLV5613IDWRG4
designator U?
12-Bit, DAC, Parallel, Voltage Out, Programmable Settling Time / Power Consumption, Power Down, -40 to 85 degC, 20-pin SOIC (DW20), Green (RoHS & no Sb/Br); Manufacturer: Texas Instruments; PartNumber: TLV5613IDWRG4; DAC Channels: 1; INL(Max)(+/-LSB): 4; Power Consumption(Typ)(mW): 4.2; Resolution(Bits): 12; SFDR(dB): 72; SNR(dB): 78; SubFamily: Precision DAC (=<10MSPS); DatasheetVersion: SLAS174B; PackageVersion: 4040000-4/G, 01/2011; PackageReference: DW20; PackageDescription: 20-Pin Plastic Small Outline, Body 12.8 x 7.5 mm, Pitch 1.27 mm; Supplier 1: Digi-Key; Supplier Part Number 1: TLV5613IDWRG4-ND; Supplier 2: Mouser; Supplier Part Number 2: 595-TLV5613IDWRG4; DNL(Max)(+/-LSB): 1; Eco-Plan: Green (RoHS & no Sb/Br); Interface: Parallel; Settling Time(us): 1; Mounting Technology: Surface Mount; Code_JEDEC: MO-013; ComponentLink1Description: Manufacturer URL; ComponentLink1URL: http://www.ti.com/; ComponentLink2Description: Datasheet; ComponentLink2URL: http://www.ti.com/general/docs/lit/getliterature.tsp?genericPartNumber=TLV5613&fileType=pdf; ComponentLink3Description: Package Specification; ComponentLink3URL: http://www.ti.com/lit/ml/mpds173a/mpds173a.pdf
footprint TI-DW20_N (SOIC, 20-Leads, Body 12.8x7.5mm, Pitch 1.27mm, IPC Medium Density)
footprint TI-DW20_L (SOIC, 20-Leads, Body 12.8x7.5mm, Pitch 1.27mm, IPC High Density)
footprint TI-DW20_M (SOIC, 20-Leads, Body 12.8x7.5mm, Pitch 1.27mm, IPC Low Density)
pins: 1 D2 (in) "Data input", 2 D3 (in) "Data input", 3 D4 (in) "Data input", 4 D5 (in) "Data input", 5 D6 (in) "Data input", 6 D7 (MSB) (in) "Data input", 7 A1 (in) "Address input", 8 A0 (in) "Address input", 9 SPD (in) "Speed select. Digital input", 10 DVDD (power) "Digital positive power supply", 11 AVDD (power) "Analog positive power supply", 12 REF (in) "Analog reference voltage input", 13 OUT (out) "DAC analog voltage output", 14 GND (power) "Ground", 15 ~{PWD} (in) "Power down. Digital input active low", 16 ~{LDAC} (in) "Load DAC. Digital input active low, used to load DAC output", 17 ~{WE} (in) "Write enable. Digital input active low, used to latch data", 18 ~{CS} (in) "Chip select. Digital input active low, used to enable/disable inputs", 19 D0 (LSB) (in) "Data input", 20 D1 (in) "Data input"

## TLV5613IPW
designator U?
12-Bit, DAC, Parallel, Voltage Out, Programmable Settling Time / Power Consumption, Power Down, -40 to 85 degC, 20-pin SOP (PW20), Green (RoHS & no Sb/Br); Manufacturer: Texas Instruments; PartNumber: TLV5613IPW; DAC Channels: 1; INL(Max)(+/-LSB): 4; Power Consumption(Typ)(mW): 4.2; Resolution(Bits): 12; SFDR(dB): 72; SNR(dB): 78; SubFamily: Precision DAC (=<10MSPS); DatasheetVersion: SLAS174B; PackageVersion: 4040064-5/G, 02/2011; PackageReference: PW20; PackageDescription: 20-Pin Plastic Small Outline, Body 6.5 x 4.4 mm, Pitch 0.65 mm; Supplier 1: Digi-Key; Supplier Part Number 1: 296-1920-5-ND; Supplier 2: Mouser; Supplier Part Number 2: 595-TLV5613IPW; DNL(Max)(+/-LSB): 1; Eco-Plan: Green (RoHS & no Sb/Br); Interface: Parallel; Settling Time(us): 1; Mounting Technology: Surface Mount; Code_JEDEC: MO-153; ComponentLink1Description: Manufacturer URL; ComponentLink1URL: http://www.ti.com/; ComponentLink2Description: Datasheet; ComponentLink2URL: http://www.ti.com/general/docs/lit/getliterature.tsp?genericPartNumber=TLV5613&fileType=pdf; ComponentLink3Description: Package Specification; ComponentLink3URL: http://www.ti.com.cn/cn/lit/ml/mpds362/mpds362.pdf
footprint TI-PW20_N (SOP, 20-Leads, Body 6.5x4.4mm, Pitch 0.65mm, IPC Medium Density)
footprint TI-PW20_L (SOP, 20-Leads, Body 6.5x4.4mm, Pitch 0.65mm, IPC High Density)
footprint TI-PW20_M (SOP, 20-Leads, Body 6.5x4.4mm, Pitch 0.65mm, IPC Low Density)
pins: 1 D2 (in) "Data input", 2 D3 (in) "Data input", 3 D4 (in) "Data input", 4 D5 (in) "Data input", 5 D6 (in) "Data input", 6 D7 (MSB) (in) "Data input", 7 A1 (in) "Address input", 8 A0 (in) "Address input", 9 SPD (in) "Speed select. Digital input", 10 DVDD (power) "Digital positive power supply", 11 AVDD (power) "Analog positive power supply", 12 REF (in) "Analog reference voltage input", 13 OUT (out) "DAC analog voltage output", 14 GND (power) "Ground", 15 ~{PWD} (in) "Power down. Digital input active low", 16 ~{LDAC} (in) "Load DAC. Digital input active low, used to load DAC output", 17 ~{WE} (in) "Write enable. Digital input active low, used to latch data", 18 ~{CS} (in) "Chip select. Digital input active low, used to enable/disable inputs", 19 D0 (LSB) (in) "Data input", 20 D1 (in) "Data input"

## TLV5613IPWG4
designator U?
12-Bit, DAC, Parallel, Voltage Out, Programmable Settling Time / Power Consumption, Power Down, -40 to 85 degC, 20-pin SOP (PW20), Green (RoHS & no Sb/Br); Manufacturer: Texas Instruments; PartNumber: TLV5613IPWG4; DAC Channels: 1; INL(Max)(+/-LSB): 4; Power Consumption(Typ)(mW): 4.2; Resolution(Bits): 12; SFDR(dB): 72; SNR(dB): 78; SubFamily: Precision DAC (=<10MSPS); DatasheetVersion: SLAS174B; PackageVersion: 4040064-5/G, 02/2011; PackageReference: PW20; PackageDescription: 20-Pin Plastic Small Outline, Body 6.5 x 4.4 mm, Pitch 0.65 mm; Supplier 1: Digi-Key; Supplier Part Number 1: TLV5613IPWG4-ND; Supplier 2: Mouser; Supplier Part Number 2: 595-TLV5613IPWG4; DNL(Max)(+/-LSB): 1; Eco-Plan: Green (RoHS & no Sb/Br); Interface: Parallel; Settling Time(us): 1; Mounting Technology: Surface Mount; Code_JEDEC: MO-153; ComponentLink1Description: Manufacturer URL; ComponentLink1URL: http://www.ti.com/; ComponentLink2Description: Datasheet; ComponentLink2URL: http://www.ti.com/general/docs/lit/getliterature.tsp?genericPartNumber=TLV5613&fileType=pdf; ComponentLink3Description: Package Specification; ComponentLink3URL: http://www.ti.com.cn/cn/lit/ml/mpds362/mpds362.pdf
footprint TI-PW20_N (SOP, 20-Leads, Body 6.5x4.4mm, Pitch 0.65mm, IPC Medium Density)
footprint TI-PW20_L (SOP, 20-Leads, Body 6.5x4.4mm, Pitch 0.65mm, IPC High Density)
footprint TI-PW20_M (SOP, 20-Leads, Body 6.5x4.4mm, Pitch 0.65mm, IPC Low Density)
pins: 1 D2 (in) "Data input", 2 D3 (in) "Data input", 3 D4 (in) "Data input", 4 D5 (in) "Data input", 5 D6 (in) "Data input", 6 D7 (MSB) (in) "Data input", 7 A1 (in) "Address input", 8 A0 (in) "Address input", 9 SPD (in) "Speed select. Digital input", 10 DVDD (power) "Digital positive power supply", 11 AVDD (power) "Analog positive power supply", 12 REF (in) "Analog reference voltage input", 13 OUT (out) "DAC analog voltage output", 14 GND (power) "Ground", 15 ~{PWD} (in) "Power down. Digital input active low", 16 ~{LDAC} (in) "Load DAC. Digital input active low, used to load DAC output", 17 ~{WE} (in) "Write enable. Digital input active low, used to latch data", 18 ~{CS} (in) "Chip select. Digital input active low, used to enable/disable inputs", 19 D0 (LSB) (in) "Data input", 20 D1 (in) "Data input"

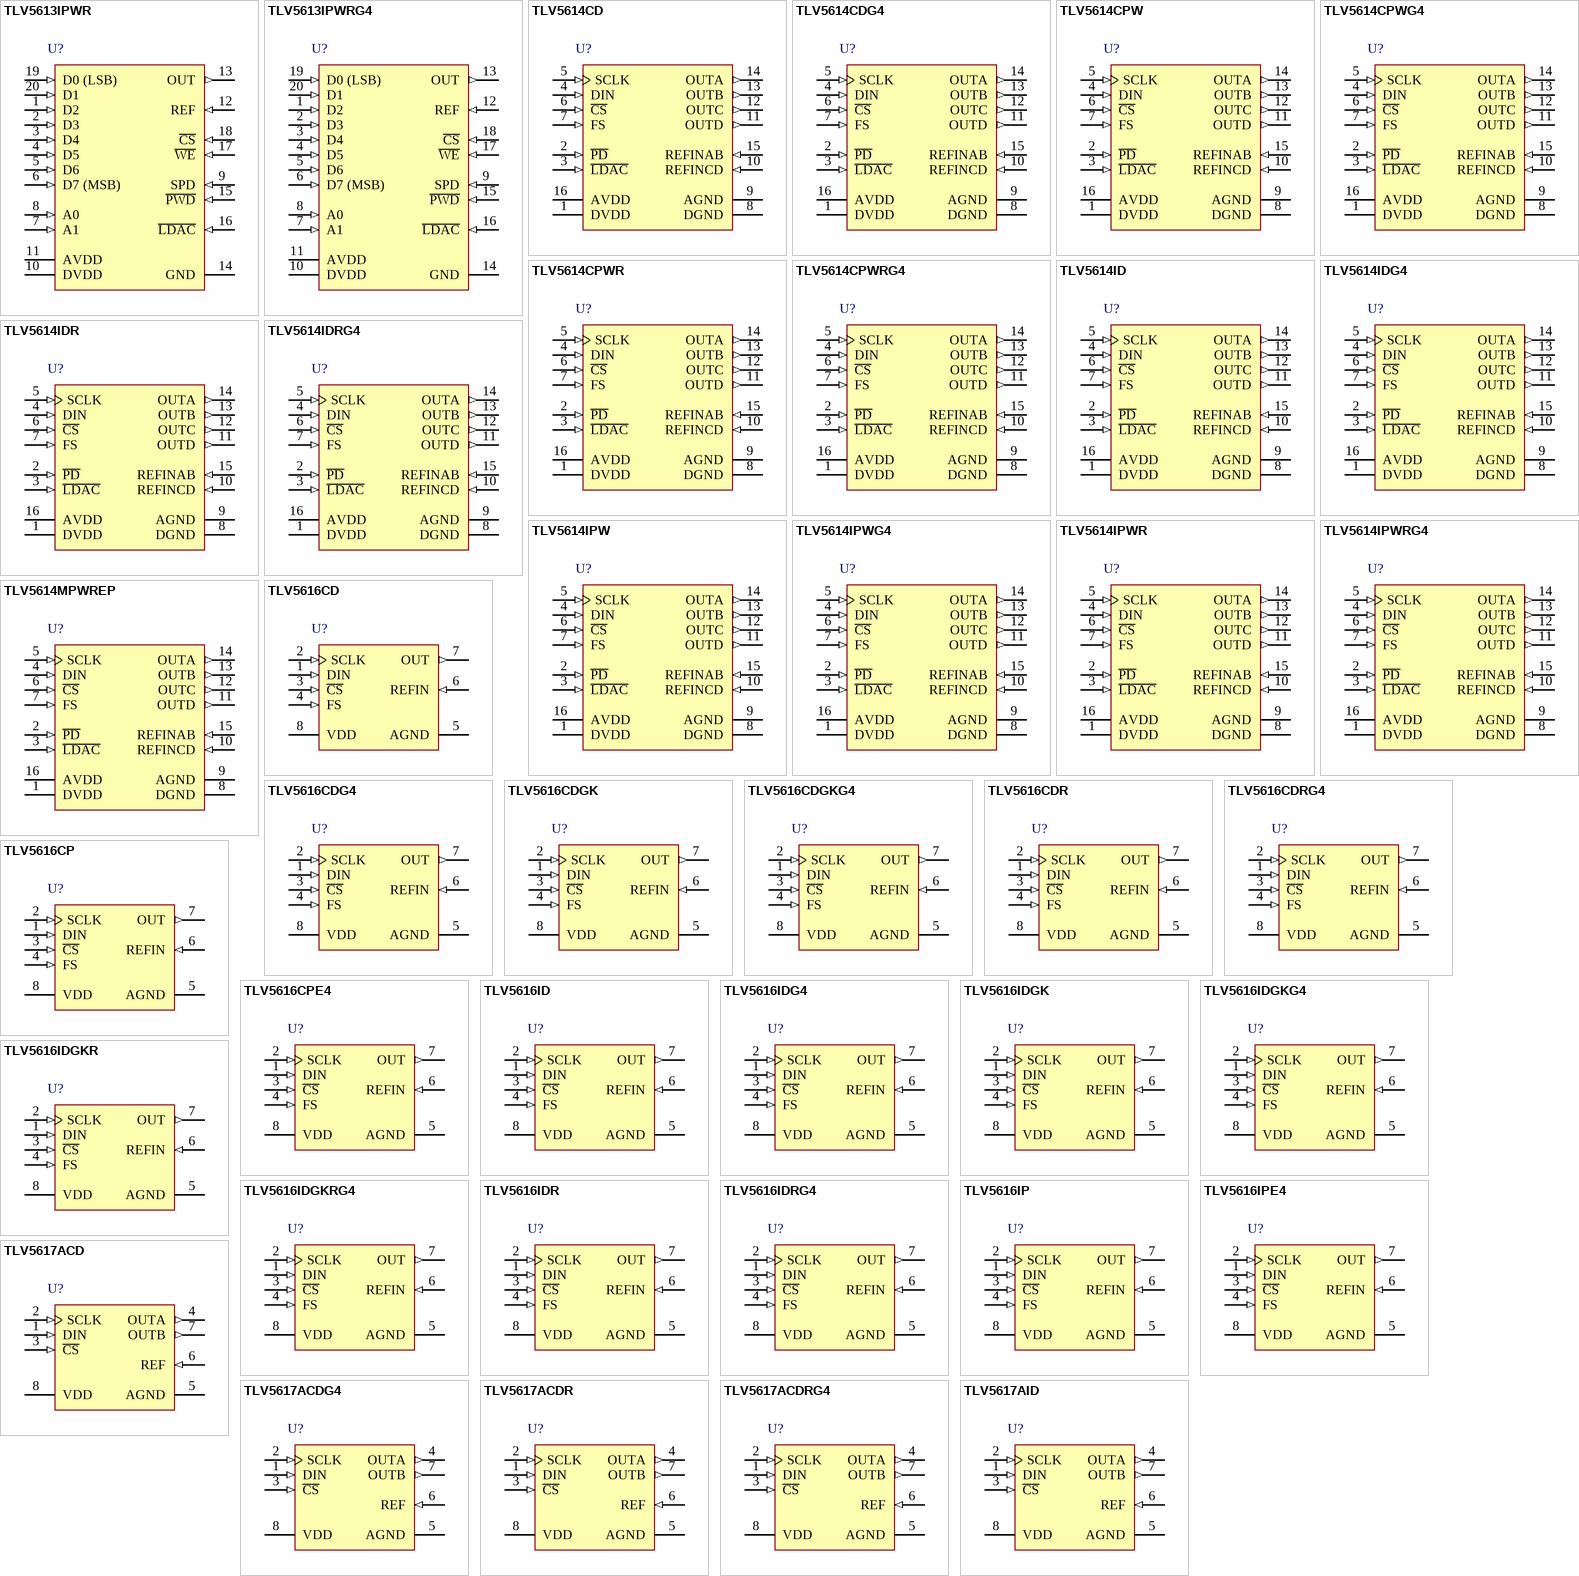
[diagram p64: symbols TLV5613IPWR to TLV5617AID]

## TLV5613IPWR
designator U?
12-Bit, DAC, Parallel, Voltage Out, Programmable Settling Time / Power Consumption, Power Down, -40 to 85 degC, 20-pin SOP (PW20), Green (RoHS & no Sb/Br); Manufacturer: Texas Instruments; PartNumber: TLV5613IPWR; DAC Channels: 1; INL(Max)(+/-LSB): 4; Power Consumption(Typ)(mW): 4.2; Resolution(Bits): 12; SFDR(dB): 72; SNR(dB): 78; SubFamily: Precision DAC (=<10MSPS); DatasheetVersion: SLAS174B; PackageVersion: 4040064-5/G, 02/2011; PackageReference: PW20; PackageDescription: 20-Pin Plastic Small Outline, Body 6.5 x 4.4 mm, Pitch 0.65 mm; Supplier 1: Digi-Key; Supplier Part Number 1: TLV5613IPWR-ND; Supplier 2: Mouser; Supplier Part Number 2: 595-TLV5613IPWR; DNL(Max)(+/-LSB): 1; Eco-Plan: Green (RoHS & no Sb/Br); Interface: Parallel; Settling Time(us): 1; Mounting Technology: Surface Mount; Code_JEDEC: MO-153; ComponentLink1Description: Manufacturer URL; ComponentLink1URL: http://www.ti.com/; ComponentLink2Description: Datasheet; ComponentLink2URL: http://www.ti.com/general/docs/lit/getliterature.tsp?genericPartNumber=TLV5613&fileType=pdf; ComponentLink3Description: Package Specification; ComponentLink3URL: http://www.ti.com.cn/cn/lit/ml/mpds362/mpds362.pdf
footprint TI-PW20_N (SOP, 20-Leads, Body 6.5x4.4mm, Pitch 0.65mm, IPC Medium Density)
footprint TI-PW20_L (SOP, 20-Leads, Body 6.5x4.4mm, Pitch 0.65mm, IPC High Density)
footprint TI-PW20_M (SOP, 20-Leads, Body 6.5x4.4mm, Pitch 0.65mm, IPC Low Density)
pins: 1 D2 (in) "Data input", 2 D3 (in) "Data input", 3 D4 (in) "Data input", 4 D5 (in) "Data input", 5 D6 (in) "Data input", 6 D7 (MSB) (in) "Data input", 7 A1 (in) "Address input", 8 A0 (in) "Address input", 9 SPD (in) "Speed select. Digital input", 10 DVDD (power) "Digital positive power supply", 11 AVDD (power) "Analog positive power supply", 12 REF (in) "Analog reference voltage input", 13 OUT (out) "DAC analog voltage output", 14 GND (power) "Ground", 15 ~{PWD} (in) "Power down. Digital input active low", 16 ~{LDAC} (in) "Load DAC. Digital input active low, used to load DAC output", 17 ~{WE} (in) "Write enable. Digital input active low, used to latch data", 18 ~{CS} (in) "Chip select. Digital input active low, used to enable/disable inputs", 19 D0 (LSB) (in) "Data input", 20 D1 (in) "Data input"

## TLV5613IPWRG4
designator U?
12-Bit, DAC, Parallel, Voltage Out, Programmable Settling Time / Power Consumption, Power Down, -40 to 85 degC, 20-pin SOP (PW20), Green (RoHS & no Sb/Br); Manufacturer: Texas Instruments; PartNumber: TLV5613IPWRG4; DAC Channels: 1; INL(Max)(+/-LSB): 4; Power Consumption(Typ)(mW): 4.2; Resolution(Bits): 12; SFDR(dB): 72; SNR(dB): 78; SubFamily: Precision DAC (=<10MSPS); DatasheetVersion: SLAS174B; PackageVersion: 4040064-5/G, 02/2011; PackageReference: PW20; PackageDescription: 20-Pin Plastic Small Outline, Body 6.5 x 4.4 mm, Pitch 0.65 mm; Supplier 1: Digi-Key; Supplier Part Number 1: TLV5613IPWRG4-ND; Supplier 2: Mouser; Supplier Part Number 2: 595-TLV5613IPWRG4; DNL(Max)(+/-LSB): 1; Eco-Plan: Green (RoHS & no Sb/Br); Interface: Parallel; Settling Time(us): 1; Mounting Technology: Surface Mount; Code_JEDEC: MO-153; ComponentLink1Description: Manufacturer URL; ComponentLink1URL: http://www.ti.com/; ComponentLink2Description: Datasheet; ComponentLink2URL: http://www.ti.com/general/docs/lit/getliterature.tsp?genericPartNumber=TLV5613&fileType=pdf; ComponentLink3Description: Package Specification; ComponentLink3URL: http://www.ti.com.cn/cn/lit/ml/mpds362/mpds362.pdf
footprint TI-PW20_N (SOP, 20-Leads, Body 6.5x4.4mm, Pitch 0.65mm, IPC Medium Density)
footprint TI-PW20_L (SOP, 20-Leads, Body 6.5x4.4mm, Pitch 0.65mm, IPC High Density)
footprint TI-PW20_M (SOP, 20-Leads, Body 6.5x4.4mm, Pitch 0.65mm, IPC Low Density)
pins: 1 D2 (in) "Data input", 2 D3 (in) "Data input", 3 D4 (in) "Data input", 4 D5 (in) "Data input", 5 D6 (in) "Data input", 6 D7 (MSB) (in) "Data input", 7 A1 (in) "Address input", 8 A0 (in) "Address input", 9 SPD (in) "Speed select. Digital input", 10 DVDD (power) "Digital positive power supply", 11 AVDD (power) "Analog positive power supply", 12 REF (in) "Analog reference voltage input", 13 OUT (out) "DAC analog voltage output", 14 GND (power) "Ground", 15 ~{PWD} (in) "Power down. Digital input active low", 16 ~{LDAC} (in) "Load DAC. Digital input active low, used to load DAC output", 17 ~{WE} (in) "Write enable. Digital input active low, used to latch data", 18 ~{CS} (in) "Chip select. Digital input active low, used to enable/disable inputs", 19 D0 (LSB) (in) "Data input", 20 D1 (in) "Data input"